# Altium schematic symbol library 方林.schlib: 91 symbols
Pins are listed as number, name and electrical type; pins without a type are passive.

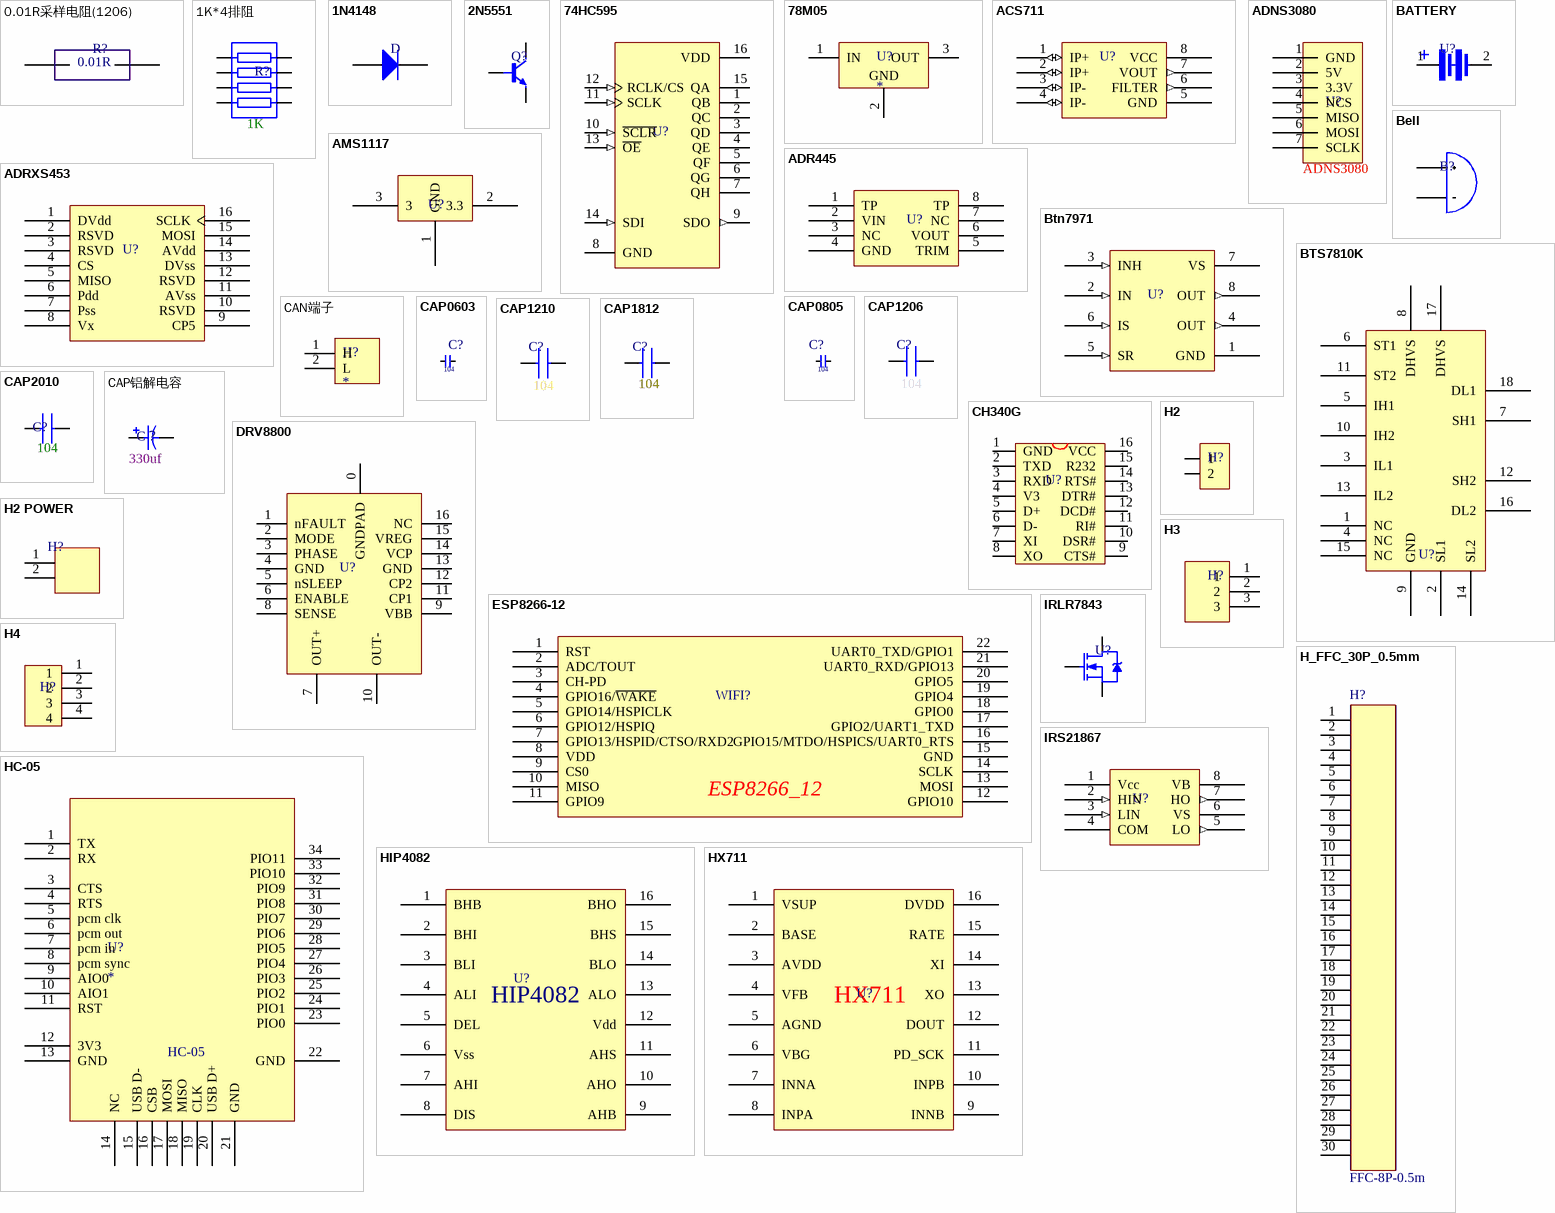
[diagram p0: symbols 0.01R采样电阻(1206) to IRS21867]

## 0.01R采样电阻(1206)
designator R?  (value not drawn)
采样电阻
footprint CAP1206
pins: 1, 2
text: 0.01R

## 1K*4排阻
designator R?  (value not drawn)
footprint 1K*4排阻
pins: 1, 2, 3, 4, 5, 6, 7, 8
text: 1K

## 1N4148
designator D  (value not drawn)
footprint 1N4148
pins: 1 A, 2 K

## 2N5551
designator Q?  (value not drawn)
NPN三极管
footprint 2N5551
pins: 1 b, 2 e, 3 c

## 74HC595
designator U?  (value not drawn)
锁存器
footprint 74HC595
pins: 1 QB (hiz), 2 QC (hiz), 3 QD (hiz), 4 QE (hiz), 5 QF (hiz), 6 QG (hiz), 7 QH (hiz), 8 GND (power), 9 SDO (out), 10 ~{SCLR} (in), 11 SCLK (in), 12 RCLK/CS (in), 13 ~{OE} (in), 14 SDI (in), 15 QA (hiz), 16 VDD (power)

## 78M05
designator U?
5V稳压
footprint 78M05
pins: 1 IN (power), 2 GND (power), 3 OUT (power)

## ACS711
designator U?  (value not drawn)
霍尔电流采样
footprint SOIC-NB-8
pins: 1 IP+ (io), 2 IP+ (io), 3 IP- (io), 4 IP- (io), 5 GND (power), 6 FILTER (out), 7 VOUT (out), 8 VCC (power)

## ADNS3080
designator U?  (value not drawn)
光流
footprint ADNS3080 (光流)
pins: 1 GND, 2 5V, 3 3.3V, 4 NCS, 5 MISO, 6 MOSI, 7 SCLK

## ADR445
designator U?  (value not drawn)
footprint ADR445
pins: 1 TP, 2 VIN, 3 NC, 4 GND, 5 TRIM, 6 VOUT, 7 NC, 8 TP

## ADRXS453
designator U?  (value not drawn)
footprint ADRXS453
pins: 1 DVdd, 2 RSVD, 3 RSVD, 4 CS, 5 MISO, 6 Pdd, 7 Pss, 8 Vx, 9 CP5, 10 RSVD, 11 AVss, 12 RSVD, 13 DVss, 14 AVdd, 15 MOSI, 16 SCLK

## AMS1117
designator U?  (value not drawn)
3.3V稳压电源
footprint AMS1117
pins: 1 GND, 2 3.3, 3

## BATTERY
designator U?  (value not drawn)
纽扣电池
footprint BATTERY
pins: 1 +, 2 -

## Bell
designator B?  (value not drawn)
蜂鸣器
footprint BELL11.9
footprint Bell9.2
pins: 1 A, 2 B

## Btn7971
designator U?  (value not drawn)
半桥驱动
footprint Btn7971
pins: 1 GND (power), 2 IN (in), 3 INH (in), 4 OUT (out), 5 SR (in), 6 IS (in), 7 VS (power), 8 OUT (out)

## BTS7810K
designator U?  (value not drawn)
全桥驱动
footprint BTS7810K
pins: 1 NC, 2 SL1, 3 IL1, 4 NC, 5 IH1, 6 ST1, 7 SH1, 8 DHVS, 9 GND, 10 IH2, 11 ST2, 12 SH2, 13 IL2, 14 SL2, 15 NC, 16 DL2, 17 DHVS, 18 DL1

## CAN端子
designator H?
footprint CAN端子
pins: 1 H, 2 L

## CAP0603
designator C?  (value not drawn)
footprint CAP0603
pins: 1, 2
text: 104

## CAP0805
designator C?, comment 104
footprint CAP
pins: 1, 2

## CAP1206
designator C?  (value not drawn)
footprint CAP1206
pins: 1, 2
text: 104

## CAP1210
designator C?  (value not drawn)
footprint CAP1210
pins: 1, 2
text: 104

## CAP1812
designator C?  (value not drawn)
footprint CAP1812
pins: 1, 2
text: 104

## CAP2010
designator C?  (value not drawn)
footprint CAP2010
pins: 1, 2
text: 104

## CAP铝解电容
designator C？  (value not drawn)
footprint CAP铝解电容
pins: 1, 2
text: 330uf

## CH340G
designator U?  (value not drawn)
usb转串口
footprint SOIC-16
pins: 1 GND, 2 TXD, 3 RXD, 4 V3, 5 D+, 6 D-, 7 XI, 8 XO, 9 CTS#, 10 DSR#, 11 RI#, 12 DCD#, 13 DTR#, 14 RTS#, 15 R232, 16 VCC

## DRV8800
designator U?  (value not drawn)
footprint DRV8800
pins: 0 GNDPAD, 1 nFAULT, 2 MODE, 3 PHASE, 4 GND, 5 nSLEEP, 6 ENABLE, 7 OUT+, 8 SENSE, 9 VBB, 10 OUT-, 11 CP1, 12 CP2, 13 GND, 14 VCP, 15 VREG, 16 NC

## ESP8266-12
designator WIFI?  (value not drawn)
footprint ESP8266-12
pins: 1 RST, 2 ADC/TOUT, 3 CH-PD, 4 GPIO16/~{WAKE}, 5 GPIO14/HSPICLK, 6 GPIO12/HSPIQ, 7 GPIO13/HSPID/CTSO/RXD2, 8 VDD, 9 CS0, 10 MISO, 11 GPIO9, 12 GPIO10, 13 MOSI, 14 SCLK, 15 GND, 16 GPIO15/MTDO/HSPICS/UART0_RTS, 17 GPIO2/UART1_TXD, 18 GPIO0, 19 GPIO4, 20 GPIO5, 21 UART0_RXD/GPIO13, 22 UART0_TXD/GPIO1
text: ESP8266_12

## H2
designator H?  (value not drawn)
排针
footprint H2 (排针)
footprint H2_WHITE (小白头)
pins: 1, 2

## H2 POWER
designator H?  (value not drawn)
footprint H2 POWER
pins: 1, 2

## H3
designator H?  (value not drawn)
排针
footprint H3 (排针)
footprint H3_WHITE (小白头)
pins: 1, 2, 3

## H4
designator H?  (value not drawn)
排针
footprint H4 (排针)
footprint H4_WHITE (小白头)
pins: 1, 2, 3, 4

## H_FFC_30P_0.5mm
designator H?, comment FFC-8P-0.5m
footprint H_FFC-30P-0.5 (间距0.5mm 30P)
pins: 1, 2, 3, 4, 5, 6, 7, 8, 9, 10, 11, 12, 13, 14, 15, 16, 17, 18, 19, 20, 21, 22, 23, 24, 25, 26, 27, 28, 29, 30

## HC-05
designator U?
蓝牙
footprint HC-05
pins: 1 TX, 2 RX, 3 CTS, 4 RTS, 5 pcm clk, 6 pcm out, 7 pcm in, 8 pcm sync, 9 AIO0, 10 AIO1, 11 RST, 12 3V3, 13 GND, 14 NC, 15 USB D-, 16 CSB, 17 MOSI, 18 MISO, 19 CLK, 20 USB D+, 21 GND, 22 GND, 23 PIO0, 24 PIO1, 25 PIO2, 26 PIO3, 27 PIO4, 28 PIO5, 29 PIO6, 30 PIO7, 31 PIO8, 32 PIO9, 33 PIO10, 34 PIO11

## HIP4082
designator U?  (value not drawn)
MOS驱动
footprint HIP4082
pins: 1 BHB, 2 BHI, 3 BLI, 4 ALI, 5 DEL, 6 Vss, 7 AHI, 8 DIS, 9 AHB, 10 AHO, 11 AHS, 12 Vdd, 13 ALO, 14 BLO, 15 BHS, 16 BHO

## HX711
designator U?  (value not drawn)
电子秤专用模拟/数字（A/D）转换器芯片
footprint SOP-16
pins: 1 VSUP, 2 BASE, 3 AVDD, 4 VFB, 5 AGND, 6 VBG, 7 INNA, 8 INPA, 9 INNB, 10 INPB, 11 PD_SCK, 12 DOUT, 13 XO, 14 XI, 15 RATE, 16 DVDD

## IRLR7843
designator U?  (value not drawn)
N-MOS
footprint IRLR7843
pins: 1 G, 3 S, 4 D

## IRS21867
designator U?  (value not drawn)
footprint IRS21867
pins: 1 Vcc (power), 2 HIN (in), 3 LIN (in), 4 COM (power), 5 LO (out), 6 VS (power), 7 HO (out), 8 VB (power)

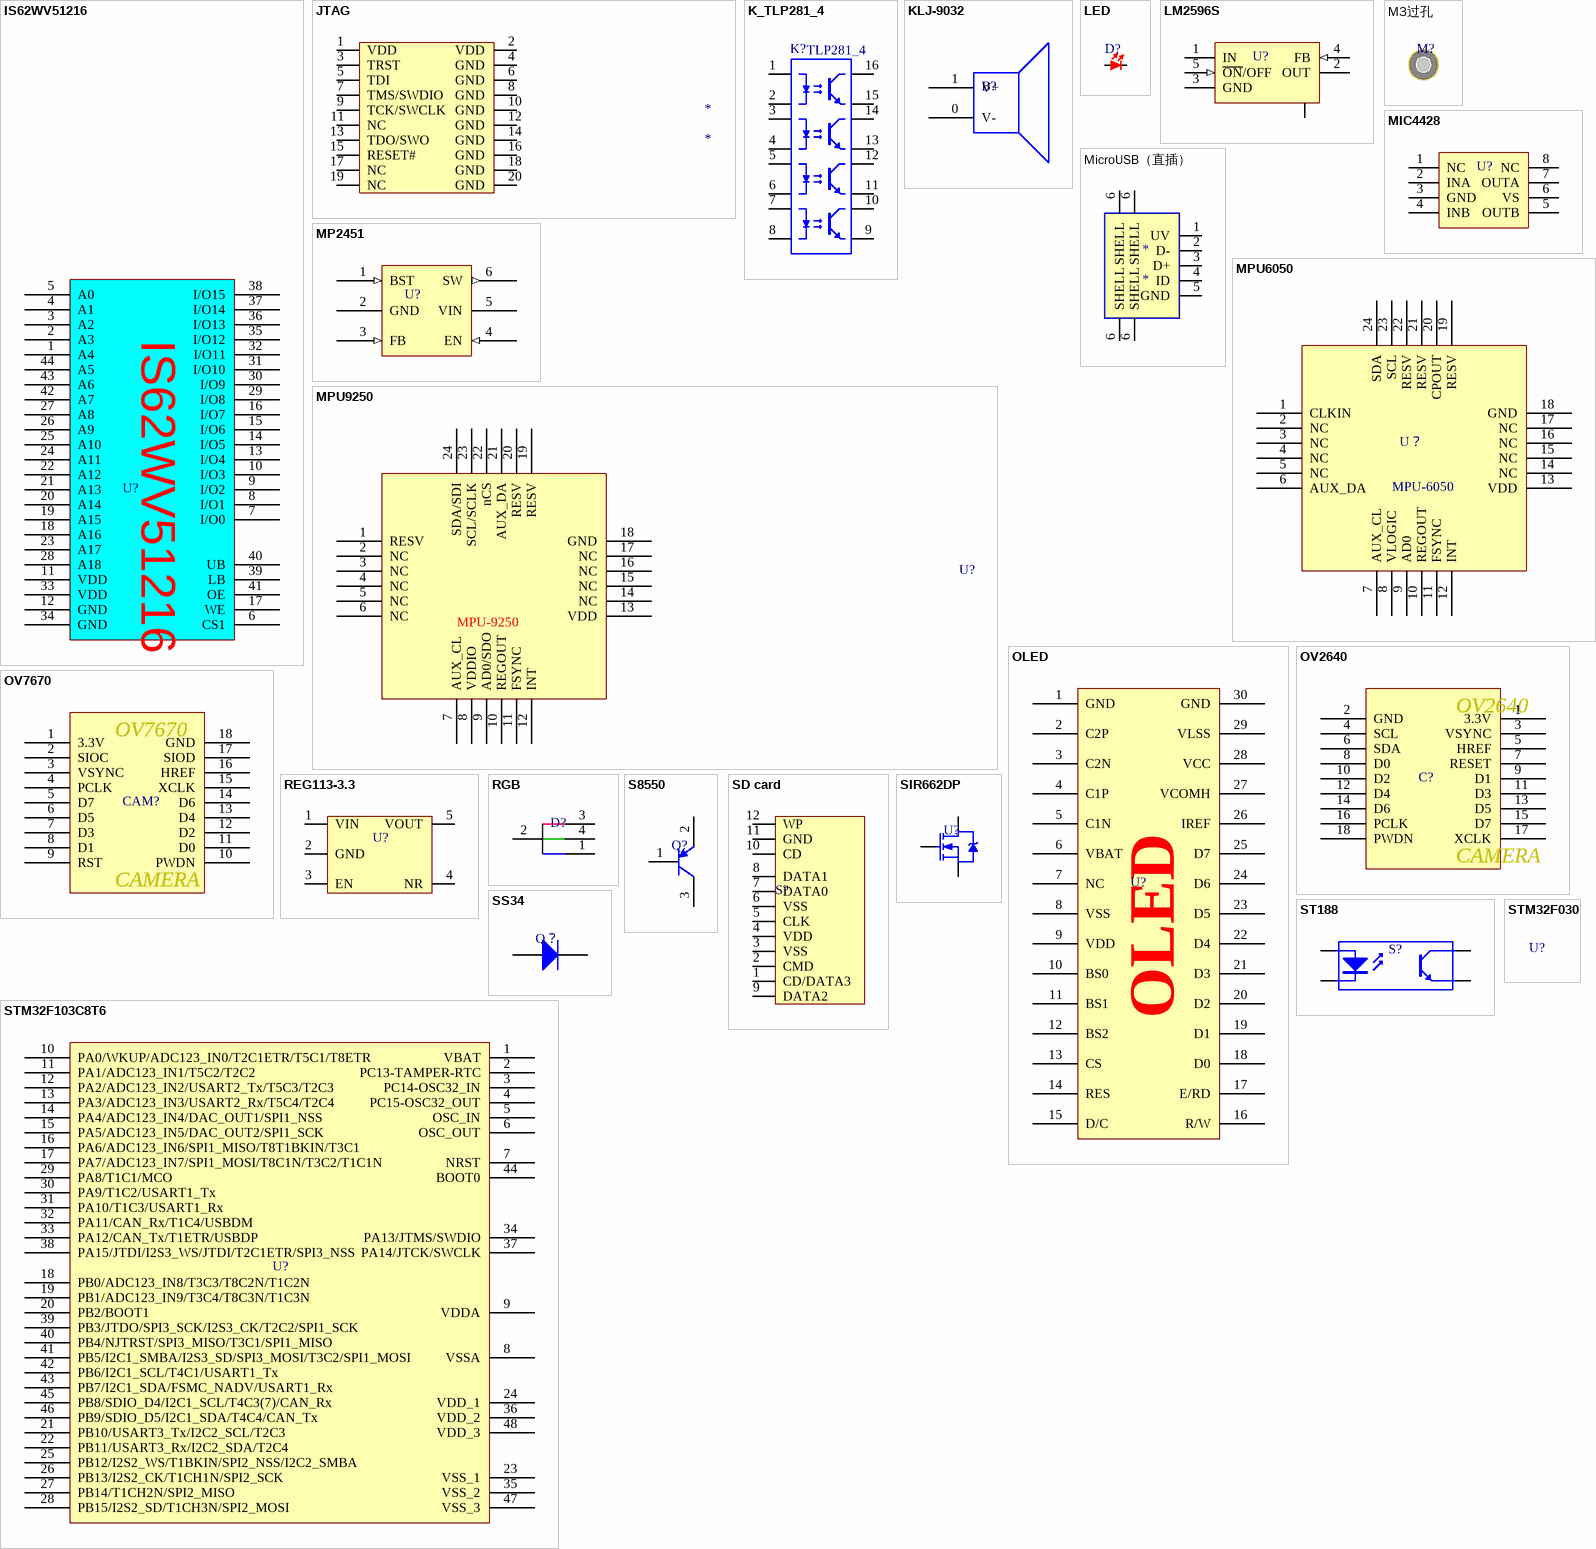
[diagram p1: symbols IS62WV51216 to STM32F103C8T6]

## IS62WV51216
designator U?  (value not drawn)
外部SRAM
footprint TSOP-44
pins: 1 A4, 2 A3, 3 A2, 4 A1, 5 A0, 6 CS1, 7 I/O0, 8 I/O1, 9 I/O2, 10 I/O3, 11 VDD, 12 GND, 13 I/O4, 14 I/O5, 15 I/O6, 16 I/O7, 17 WE, 18 A16, 19 A15, 20 A14, 21 A13, 22 A12, 23 A17, 24 A11, 25 A10, 26 A9, 27 A8, 28 A18, 29 I/O8, 30 I/O9, 31 I/O10, 32 I/O11, 33 VDD, 34 GND, 35 I/O12, 36 I/O13, 37 I/O14, 38 I/O15, 39 LB, 40 UB, 41 OE, 42 A7, 43 A6, 44 A5

## JTAG
designator *
footprint JTAG
pins: 1 VDD, 2 VDD, 3 TRST, 4 GND, 5 TDI, 6 GND, 7 TMS/SWDIO, 8 GND, 9 TCK/SWCLK, 10 GND, 11 NC, 12 GND, 13 TDO/SWO, 14 GND, 15 RESET#, 16 GND, 17 NC, 18 GND, 19 NC, 20 GND

## K_TLP281_4
designator K?, comment TLP281_4
4通道贴片光耦
footprint SOP-16
pins: 1 A "Anode", 2 K "Cathode", 3 A "Anode", 4 K "Cathode", 5 A "Anode", 6 K "Cathode", 7 A "Anode", 8 K "Cathode", 9 E "Emitter", 10 C "Collector", 11 E "Emitter", 12 C "Collector", 13 E "Emitter", 14 C "Collector", 15 E "Emitter", 16 C "Collector"

## KLJ-9032
designator B?  (value not drawn)
贴片蜂鸣器
footprint KLJ-9032
pins: 0 V- (power), 1 V+ (power)

## LED
designator D?  (value not drawn)
footprint LED
footprint LED_0603_R
footprint LED_0603_G
footprint LED_0603_B
pins: 1, 2

## LM2596S
designator U?  (value not drawn)
开关稳压芯片
footprint LM2596S
pins: 1 IN (power), 2 OUT (power), 3 GND (power), 4 FB (in), 5 ~{ON}/OFF (in), 6 (power)

## M3过孔
designator M?  (value not drawn)
footprint M3过孔

## MIC4428
designator U?  (value not drawn)
缓冲器
footprint SOIC-NB-8
pins: 1 NC, 2 INA, 3 GND, 4 INB, 5 OUTB, 6 VS, 7 OUTA, 8 NC

## MicroUSB（直插）
designator *
footprint MINI  USB
footprint MicroUSB（直插）
footprint Micro USB
pins: 1 UV, 2 D-, 3 D+, 4 ID, 5 GND, 6 SHELL, 6 SHELL, 6 SHELL, 6 SHELL

## MP2451
designator U?  (value not drawn)
footprint SOT23-6
pins: 1 BST (in), 2 GND (power), 3 FB (in), 4 EN (in), 5 VIN (power), 6 SW (out)

## MPU6050
designator U？  (value not drawn)
footprint MPU6050
pins: 1 CLKIN, 2 NC, 3 NC, 4 NC, 5 NC, 6 AUX_DA, 7 AUX_CL, 8 VLOGIC, 9 AD0, 10 REGOUT, 11 FSYNC, 12 INT, 13 VDD, 14 NC, 15 NC, 16 NC, 17 NC, 18 GND, 19 RESV, 20 CPOUT, 21 RESV, 22 RESV, 23 SCL, 24 SDA
text: MPU-6050

## MPU9250
designator U?  (value not drawn)
九轴陀螺仪
footprint MPU9250
pins: 1 RESV, 2 NC, 3 NC, 4 NC, 5 NC, 6 NC, 7 AUX_CL, 8 VDDIO, 9 AD0/SDO, 10 REGOUT, 11 FSYNC, 12 INT, 13 VDD, 14 NC, 15 NC, 16 NC, 17 NC, 18 GND, 19 RESV, 20 RESV, 21 AUX_DA, 22 nCS, 23 SCL/SCLK, 24 SDA/SDI
text: MPU-9250

## OLED
designator U?  (value not drawn)
footprint OLED
pins: 1 GND, 2 C2P, 3 C2N, 4 C1P, 5 C1N, 6 VBAT, 7 NC, 8 VSS, 9 VDD, 10 BS0, 11 BS1, 12 BS2, 13 CS, 14 RES, 15 D/C, 16 R/W, 17 E/RD, 18 D0, 19 D1, 20 D2, 21 D3, 22 D4, 23 D5, 24 D6, 25 D7, 26 IREF, 27 VCOMH, 28 VCC, 29 VLSS, 30 GND

## OV2640
designator C?  (value not drawn)
摄像头
footprint OV2640
pins: 1 3.3V, 2 GND, 3 VSYNC, 4 SCL, 5 HREF, 6 SDA, 7 RESET, 8 D0, 9 D1, 10 D2, 11 D3, 12 D4, 13 D5, 14 D6, 15 D7, 16 PCLK, 17 XCLK, 18 PWDN
text: CAMERA

## OV7670
designator CAM?  (value not drawn)
摄像头
footprint OV7670
pins: 1 3.3V, 2 SIOC, 3 VSYNC, 4 PCLK, 5 D7, 6 D5, 7 D3, 8 D1, 9 RST, 10 PWDN, 11 D0, 12 D2, 13 D4, 14 D6, 15 XCLK, 16 HREF, 17 SIOD, 18 GND
text: CAMERA

## REG113-3.3
designator U?  (value not drawn)
3.3V稳压电源
footprint REG113-3.3
pins: 1 VIN, 2 GND, 3 EN, 4 NR, 5 VOUT

## RGB
designator D?  (value not drawn)
三色LED
footprint RGB
pins: 1 OUT, 2 OUT, 3 OUT, 4 OUT

## S8550
designator Q?  (value not drawn)
pins: 1 B, 2 E, 3 C

## SD card
designator S?  (value not drawn)
footprint SDcard
pins: 1 CD/DATA3, 2 CMD, 3 VSS, 4 VDD, 5 CLK, 6 VSS, 7 DATA0, 8 DATA1, 9 DATA2, 10 CD, 11 GND, 12 WP

## SIR662DP
designator U?  (value not drawn)
N-MOS
footprint SIR662DP
pins: D, G, S

## SS34
designator Q？  (value not drawn)
肖特基二极管
footprint SS34 (肖特基二极管)
pins: 1 A, 2 K

## ST188
designator S?  (value not drawn)
红外对管
footprint ST188
pins: 1 A "Anode", 2 K "Cathode", 3 E "Emitter", 4 C "Collector"

## STM32F030
designator U?  (value not drawn)
footprint STM32F030

## STM32F103C8T6
designator U?  (value not drawn)
footprint LQFP_48P
pins: 1 VBAT, 2 PC13-TAMPER-RTC, 3 PC14-OSC32_IN, 4 PC15-OSC32_OUT, 5 OSC_IN, 6 OSC_OUT, 7 NRST, 8 VSSA, 9 VDDA, 10 PA0/WKUP/ADC123_IN0/T2C1ETR/T5C1/T8ETR, 11 PA1/ADC123_IN1/T5C2/T2C2, 12 PA2/ADC123_IN2/USART2_Tx/T5C3/T2C3, 13 PA3/ADC123_IN3/USART2_Rx/T5C4/T2C4, 14 PA4/ADC123_IN4/DAC_OUT1/SPI1_NSS, 15 PA5/ADC123_IN5/DAC_OUT2/SPI1_SCK, 16 PA6/ADC123_IN6/SPI1_MISO/T8T1BKIN/T3C1, 17 PA7/ADC123_IN7/SPI1_MOSI/T8C1N/T3C2/T1C1N, 18 PB0/ADC123_IN8/T3C3/T8C2N/T1C2N, 19 PB1/ADC123_IN9/T3C4/T8C3N/T1C3N, 20 PB2/BOOT1, 21 PB10/USART3_Tx/I2C2_SCL/T2C3, 22 PB11/USART3_Rx/I2C2_SDA/T2C4, 23 VSS_1, 24 VDD_1, 25 PB12/I2S2_WS/T1BKIN/SPI2_NSS/I2C2_SMBA, 26 PB13/I2S2_CK/T1CH1N/SPI2_SCK, 27 PB14/T1CH2N/SPI2_MISO, 28 PB15/I2S2_SD/T1CH3N/SPI2_MOSI, 29 PA8/T1C1/MCO, 30 PA9/T1C2/USART1_Tx, 31 PA10/T1C3/USART1_Rx, 32 PA11/CAN_Rx/T1C4/USBDM, 33 PA12/CAN_Tx/T1ETR/USBDP, 34 PA13/JTMS/SWDIO, 35 VSS_2, 36 VDD_2, 37 PA14/JTCK/SWCLK, 38 PA15/JTDI/I2S3_WS/JTDI/T2C1ETR/SPI3_NSS, 39 PB3/JTDO/SPI3_SCK/I2S3_CK/T2C2/SPI1_SCK, 40 PB4/NJTRST/SPI3_MISO/T3C1/SPI1_MISO, 41 PB5/I2C1_SMBA/I2S3_SD/SPI3_MOSI/T3C2/SPI1_MOSI, 42 PB6/I2C1_SCL/T4C1/USART1_Tx, 43 PB7/I2C1_SDA/FSMC_NADV/USART1_Rx, 44 BOOT0, 45 PB8/SDIO_D4/I2C1_SCL/T4C3(7)/CAN_Rx, 46 PB9/SDIO_D5/I2C1_SDA/T4C4/CAN_Tx, 47 VSS_3, 48 VDD_3

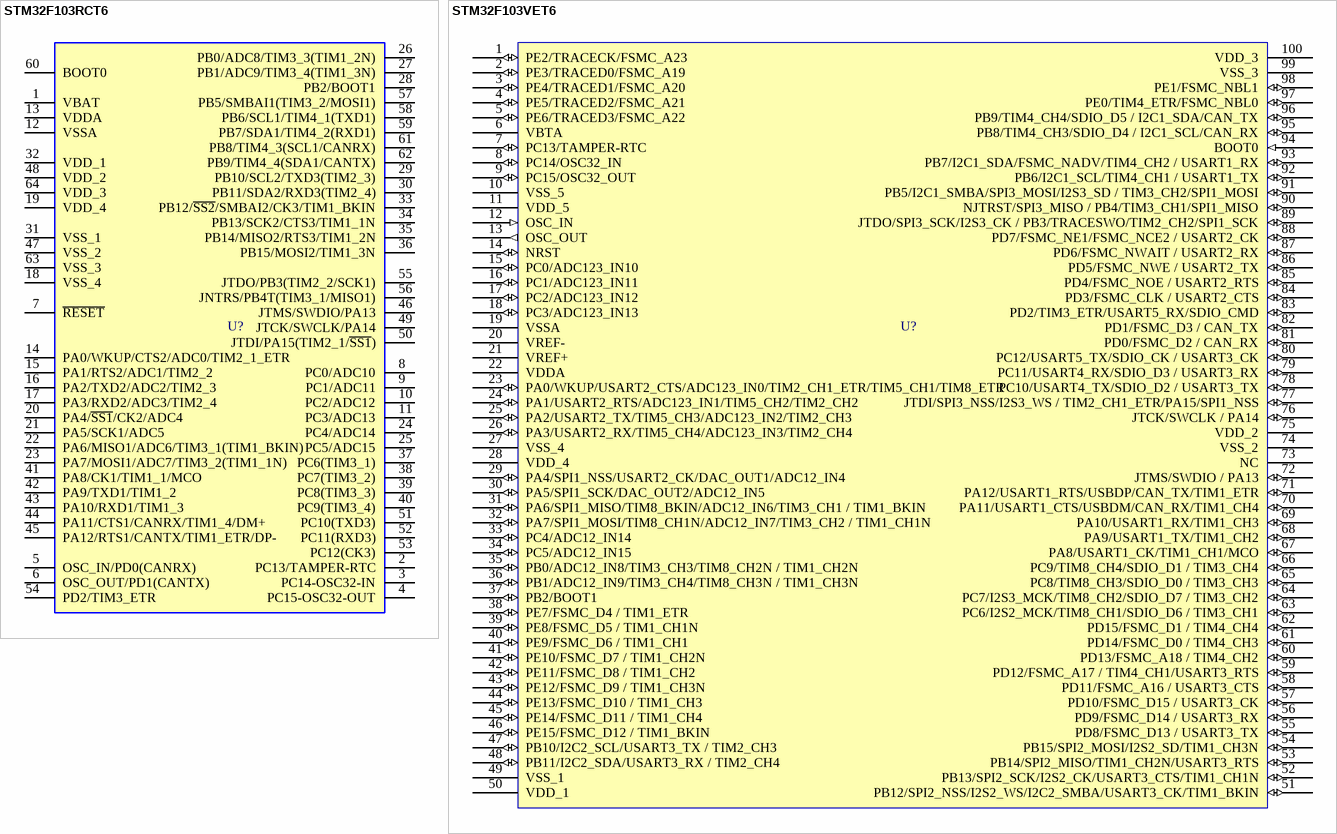
[diagram p2: symbols STM32F103RCT6 to STM32F103VET6]

## STM32F103RCT6
designator U?  (value not drawn)
footprint LQFP_64P
pins: 1 VBAT, 2 PC13/TAMPER-RTC, 3 PC14-OSC32-IN, 4 PC15-OSC32-OUT, 5 OSC_IN/PD0(CANRX), 6 OSC_OUT/PD1(CANTX), 7 ~{RESET}, 8 PC0/ADC10, 9 PC1/ADC11, 10 PC2/ADC12, 11 PC3/ADC13, 12 VSSA, 13 VDDA, 14 PA0/WKUP/CTS2/ADC0/TIM2_1_ETR, 15 PA1/RTS2/ADC1/TIM2_2, 16 PA2/TXD2/ADC2/TIM2_3, 17 PA3/RXD2/ADC3/TIM2_4, 18 VSS_4, 19 VDD_4, 20 PA4/~{SS1}/CK2/ADC4, 21 PA5/SCK1/ADC5, 22 PA6/MISO1/ADC6/TIM3_1(TIM1_BKIN), 23 PA7/MOSI1/ADC7/TIM3_2(TIM1_1N), 24 PC4/ADC14, 25 PC5/ADC15, 26 PB0/ADC8/TIM3_3(TIM1_2N), 27 PB1/ADC9/TIM3_4(TIM1_3N), 28 PB2/BOOT1, 29 PB10/SCL2/TXD3(TIM2_3), 30 PB11/SDA2/RXD3(TIM2_4), 31 VSS_1, 32 VDD_1, 33 PB12/~{SS2}/SMBAI2/CK3/TIM1_BKIN, 34 PB13/SCK2/CTS3/TIM1_1N, 35 PB14/MISO2/RTS3/TIM1_2N, 36 PB15/MOSI2/TIM1_3N, 37 PC6(TIM3_1), 38 PC7(TIM3_2), 39 PC8(TIM3_3), 40 PC9(TIM3_4), 41 PA8/CK1/TIM1_1/MCO, 42 PA9/TXD1/TIM1_2, 43 PA10/RXD1/TIM1_3, 44 PA11/CTS1/CANRX/TIM1_4/DM+, 45 PA12/RTS1/CANTX/TIM1_ETR/DP-, 46 JTMS/SWDIO/PA13, 47 VSS_2, 48 VDD_2, 49 JTCK/SWCLK/PA14, 50 JTDI/PA15(TIM2_1/~{SS1}), 51 PC10(TXD3), 52 PC11(RXD3), 53 PC12(CK3), 54 PD2/TIM3_ETR, 55 JTDO/PB3(TIM2_2/SCK1), 56 JNTRS/PB4T(TIM3_1/MISO1), 57 PB5/SMBAI1(TIM3_2/MOSI1), 58 PB6/SCL1/TIM4_1(TXD1), 59 PB7/SDA1/TIM4_2(RXD1), 60 BOOT0, 61 PB8/TIM4_3(SCL1/CANRX), 62 PB9/TIM4_4(SDA1/CANTX), 63 VSS_3, 64 VDD_3

## STM32F103VET6
designator U?  (value not drawn)
footprint LQFP_100P
pins: 1 PE2/TRACECK/FSMC_A23 (io), 2 PE3/TRACED0/FSMC_A19 (io), 3 PE4/TRACED1/FSMC_A20 (io), 4 PE5/TRACED2/FSMC_A21 (io), 5 PE6/TRACED3/FSMC_A22 (io), 6 VBTA (power), 7 PC13/TAMPER-RTC (io), 8 PC14/OSC32_IN (io), 9 PC15/OSC32_OUT (io), 10 VSS_5 (power), 11 VDD_5 (power), 12 OSC_IN (in), 13 OSC_OUT (out), 14 NRST (io), 15 PC0/ADC123_IN10 (io), 16 PC1/ADC123_IN11 (io), 17 PC2/ADC123_IN12 (io), 18 PC3/ADC123_IN13 (io), 19 VSSA (power), 20 VREF- (power), 21 VREF+ (power), 22 VDDA (power), 23 PA0/WKUP/USART2_CTS/ADC123_IN0/TIM2_CH1_ETR/TIM5_CH1/TIM8_ETR (io), 24 PA1/USART2_RTS/ADC123_IN1/TIM5_CH2/TIM2_CH2 (io), 25 PA2/USART2_TX/TIM5_CH3/ADC123_IN2/TIM2_CH3 (io), 26 PA3/USART2_RX/TIM5_CH4/ADC123_IN3/TIM2_CH4 (io), 27 VSS_4 (power), 28 VDD_4 (power), 29 PA4/SPI1_NSS/USART2_CK/DAC_OUT1/ADC12_IN4 (io), 30 PA5/SPI1_SCK/DAC_OUT2/ADC12_IN5 (io), 31 PA6/SPI1_MISO/TIM8_BKIN/ADC12_IN6/TIM3_CH1 / TIM1_BKIN (io), 32 PA7/SPI1_MOSI/TIM8_CH1N/ADC12_IN7/TIM3_CH2 / TIM1_CH1N (io), 33 PC4/ADC12_IN14 (io), 34 PC5/ADC12_IN15 (io), 35 PB0/ADC12_IN8/TIM3_CH3/TIM8_CH2N / TIM1_CH2N (io), 36 PB1/ADC12_IN9/TIM3_CH4/TIM8_CH3N / TIM1_CH3N (io), 37 PB2/BOOT1 (io), 38 PE7/FSMC_D4 / TIM1_ETR (io), 39 PE8/FSMC_D5 / TIM1_CH1N (io), 40 PE9/FSMC_D6 / TIM1_CH1 (io), 41 PE10/FSMC_D7 / TIM1_CH2N (io), 42 PE11/FSMC_D8 / TIM1_CH2 (io), 43 PE12/FSMC_D9 / TIM1_CH3N (io), 44 PE13/FSMC_D10 / TIM1_CH3 (io), 45 PE14/FSMC_D11 / TIM1_CH4 (io), 46 PE15/FSMC_D12 / TIM1_BKIN (io), 47 PB10/I2C2_SCL/USART3_TX / TIM2_CH3 (io), 48 PB11/I2C2_SDA/USART3_RX / TIM2_CH4 (io), 49 VSS_1 (power), 50 VDD_1 (power), 51 PB12/SPI2_NSS/I2S2_WS/I2C2_SMBA/USART3_CK/TIM1_BKIN (io), 52 PB13/SPI2_SCK/I2S2_CK/USART3_CTS/TIM1_CH1N (io), 53 PB14/SPI2_MISO/TIM1_CH2N/USART3_RTS (io), 54 PB15/SPI2_MOSI/I2S2_SD/TIM1_CH3N (io), 55 PD8/FSMC_D13 / USART3_TX (io), 56 PD9/FSMC_D14 / USART3_RX (io), 57 PD10/FSMC_D15 / USART3_CK (io), 58 PD11/FSMC_A16 / USART3_CTS (io), 59 PD12/FSMC_A17 / TIM4_CH1/USART3_RTS (io), 60 PD13/FSMC_A18 / TIM4_CH2 (io), 61 PD14/FSMC_D0 / TIM4_CH3 (io), 62 PD15/FSMC_D1 / TIM4_CH4 (io), 63 PC6/I2S2_MCK/TIM8_CH1/SDIO_D6 / TIM3_CH1 (io), 64 PC7/I2S3_MCK/TIM8_CH2/SDIO_D7 / TIM3_CH2 (io), 65 PC8/TIM8_CH3/SDIO_D0 / TIM3_CH3 (io), 66 PC9/TIM8_CH4/SDIO_D1 / TIM3_CH4 (io), 67 PA8/USART1_CK/TIM1_CH1/MCO (io), 68 PA9/USART1_TX/TIM1_CH2 (io), 69 PA10/USART1_RX/TIM1_CH3 (io), 70 PA11/USART1_CTS/USBDM/CAN_RX/TIM1_CH4 (io), 71 PA12/USART1_RTS/USBDP/CAN_TX/TIM1_ETR (io), 72 JTMS/SWDIO / PA13 (io), 73 NC, 74 VSS_2 (power), 75 VDD_2 (power), 76 JTCK/SWCLK / PA14 (io), 77 JTDI/SPI3_NSS/I2S3_WS / TIM2_CH1_ETR/PA15/SPI1_NSS (io), 78 PC10/USART4_TX/SDIO_D2 / USART3_TX (io), 79 PC11/USART4_RX/SDIO_D3 / USART3_RX (io), 80 PC12/USART5_TX/SDIO_CK / USART3_CK (io), 81 PD0/FSMC_D2 / CAN_RX (io), 82 PD1/FSMC_D3 / CAN_TX (io), 83 PD2/TIM3_ETR/USART5_RX/SDIO_CMD (io), 84 PD3/FSMC_CLK / USART2_CTS (io), 85 PD4/FSMC_NOE / USART2_RTS (io), 86 PD5/FSMC_NWE / USART2_TX (io), 87 PD6/FSMC_NWAIT / USART2_RX (io), 88 PD7/FSMC_NE1/FSMC_NCE2 / USART2_CK (io), 89 JTDO/SPI3_SCK/I2S3_CK / PB3/TRACESWO/TIM2_CH2/SPI1_SCK (io), 90 NJTRST/SPI3_MISO / PB4/TIM3_CH1/SPI1_MISO (io), 91 PB5/I2C1_SMBA/SPI3_MOSI/I2S3_SD / TIM3_CH2/SPI1_MOSI (io), 92 PB6/I2C1_SCL/TIM4_CH1 / USART1_TX (io), 93 PB7/I2C1_SDA/FSMC_NADV/TIM4_CH2 / USART1_RX (io), 94 BOOT0 (in), 95 PB8/TIM4_CH3/SDIO_D4 / I2C1_SCL/CAN_RX (io), 96 PB9/TIM4_CH4/SDIO_D5 / I2C1_SDA/CAN_TX (io), 97 PE0/TIM4_ETR/FSMC_NBL0 (io), 98 PE1/FSMC_NBL1 (io), 99 VSS_3 (power), 100 VDD_3 (power)

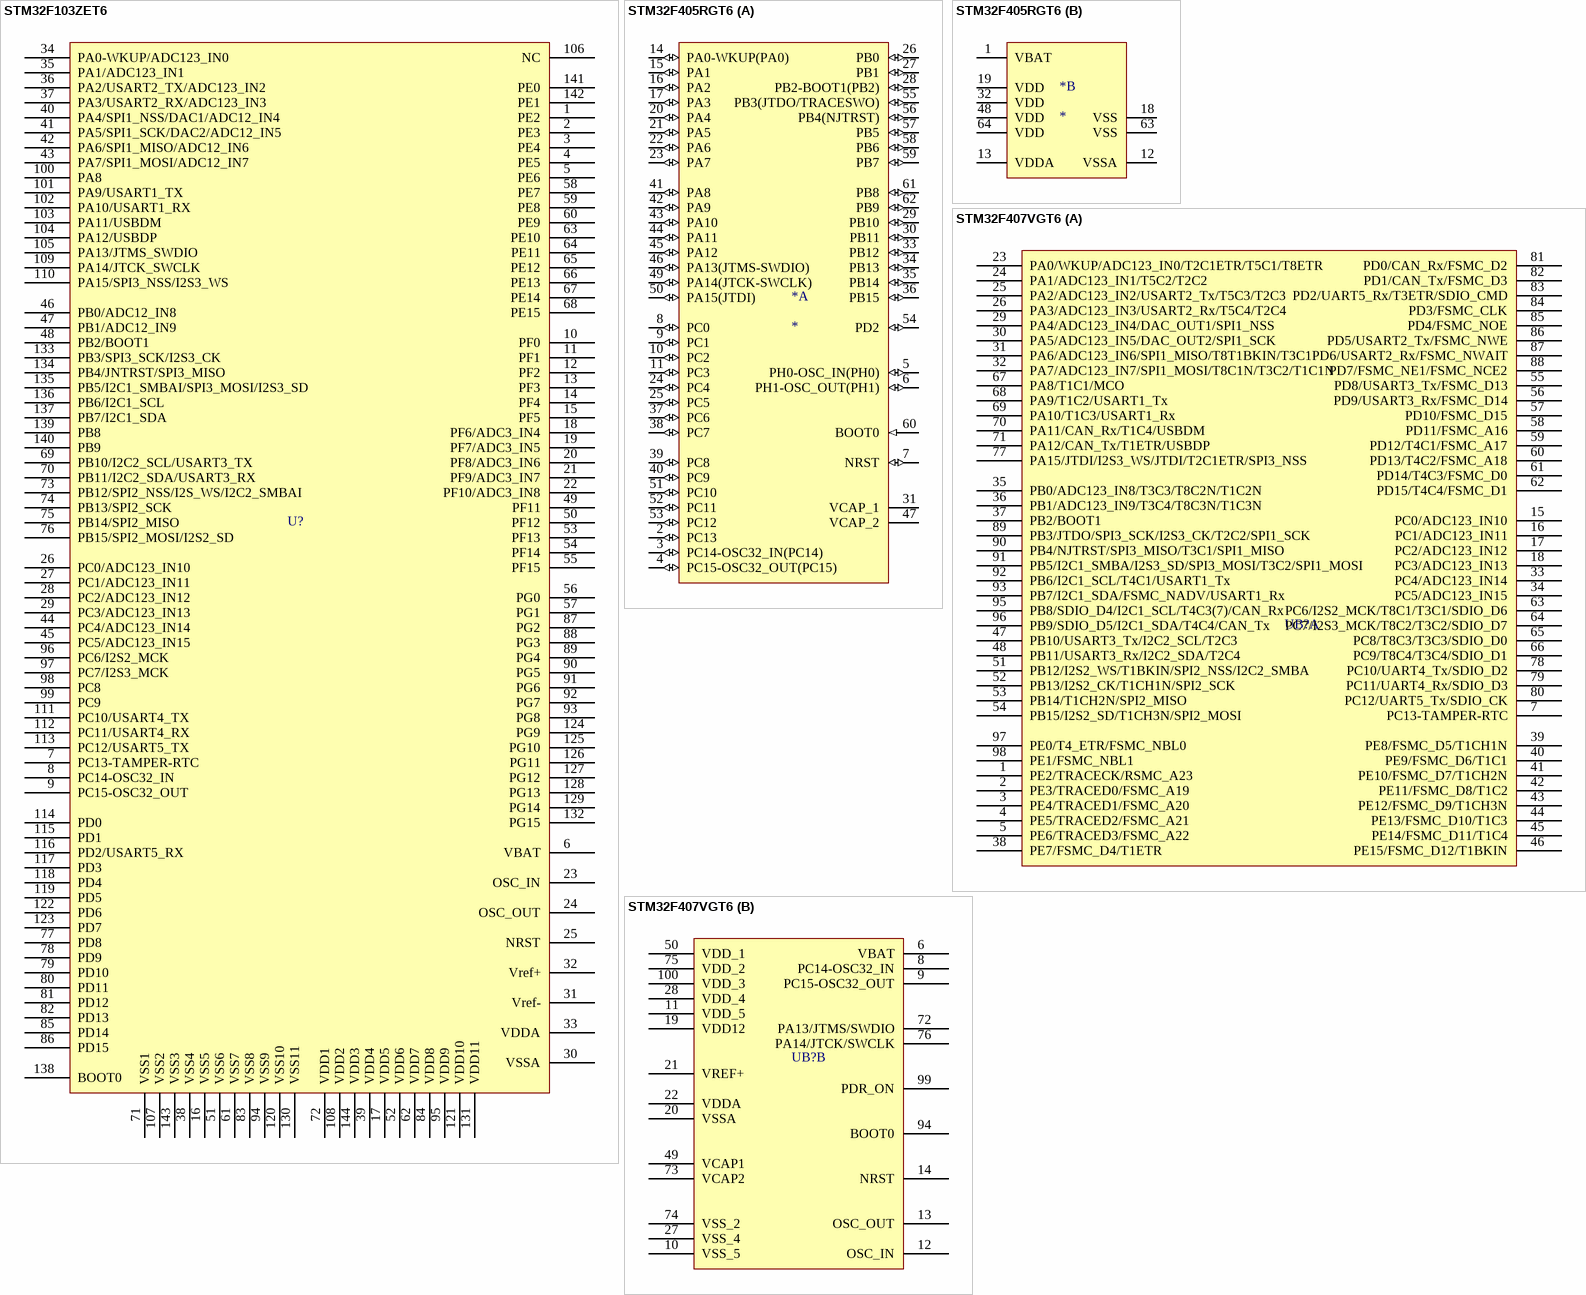
[diagram p3: symbols STM32F103ZET6 to STM32F407VGT6]

## STM32F103ZET6
designator U?  (value not drawn)
footprint LQFP_144P
pins: 1 PE2, 2 PE3, 3 PE4, 4 PE5, 5 PE6, 6 VBAT, 7 PC13-TAMPER-RTC, 8 PC14-OSC32_IN, 9 PC15-OSC32_OUT, 10 PF0, 11 PF1, 12 PF2, 13 PF3, 14 PF4, 15 PF5, 16 VSS5, 17 VDD5, 18 PF6/ADC3_IN4, 19 PF7/ADC3_IN5, 20 PF8/ADC3_IN6, 21 PF9/ADC3_IN7, 22 PF10/ADC3_IN8, 23 OSC_IN, 24 OSC_OUT, 25 NRST, 26 PC0/ADC123_IN10, 27 PC1/ADC123_IN11, 28 PC2/ADC123_IN12, 29 PC3/ADC123_IN13, 30 VSSA, 31 Vref-, 32 Vref+, 33 VDDA, 34 PA0-WKUP/ADC123_IN0, 35 PA1/ADC123_IN1, 36 PA2/USART2_TX/ADC123_IN2, 37 PA3/USART2_RX/ADC123_IN3, 38 VSS4, 39 VDD4, 40 PA4/SPI1_NSS/DAC1/ADC12_IN4, 41 PA5/SPI1_SCK/DAC2/ADC12_IN5, 42 PA6/SPI1_MISO/ADC12_IN6, 43 PA7/SPI1_MOSI/ADC12_IN7, 44 PC4/ADC123_IN14, 45 PC5/ADC123_IN15, 46 PB0/ADC12_IN8, 47 PB1/ADC12_IN9, 48 PB2/BOOT1, 49 PF11, 50 PF12, 51 VSS6, 52 VDD6, 53 PF13, 54 PF14, 55 PF15, 56 PG0, 57 PG1, 58 PE7, 59 PE8, 60 PE9, 61 VSS7, 62 VDD7, 63 PE10, 64 PE11, 65 PE12, 66 PE13, 67 PE14, 68 PE15, 69 PB10/I2C2_SCL/USART3_TX, 70 PB11/I2C2_SDA/USART3_RX, 71 VSS1, 72 VDD1, 73 PB12/SPI2_NSS/I2S_WS/I2C2_SMBAI, 74 PB13/SPI2_SCK, 75 PB14/SPI2_MISO, 76 PB15/SPI2_MOSI/I2S2_SD, 77 PD8, 78 PD9, 79 PD10, 80 PD11, 81 PD12, 82 PD13, 83 VSS8, 84 VDD8, 85 PD14, 86 PD15, 87 PG2, 88 PG3, 89 PG4, 90 PG5, 91 PG6, 92 PG7, 93 PG8, 94 VSS9, 95 VDD9, 96 PC6/I2S2_MCK, 97 PC7/I2S3_MCK, 98 PC8, 99 PC9, 100 PA8, 101 PA9/USART1_TX, 102 PA10/USART1_RX, 103 PA11/USBDM, 104 PA12/USBDP, 105 PA13/JTMS_SWDIO, 106 NC, 107 VSS2, 108 VDD2, 109 PA14/JTCK_SWCLK, 110 PA15/SPI3_NSS/I2S3_WS, 111 PC10/USART4_TX, 112 PC11/USART4_RX, 113 PC12/USART5_TX, 114 PD0, 115 PD1, 116 PD2/USART5_RX, 117 PD3, 118 PD4, 119 PD5, 120 VSS10, 121 VDD10, 122 PD6, 123 PD7, 124 PG9, 125 PG10, 126 PG11, 127 PG12, 128 PG13, 129 PG14, 130 VSS11, 131 VDD11, 132 PG15, 133 PB3/SPI3_SCK/I2S3_CK, 134 PB4/JNTRST/SPI3_MISO, 135 PB5/I2C1_SMBAI/SPI3_MOSI/I2S3_SD, 136 PB6/I2C1_SCL, 137 PB7/I2C1_SDA, 138 BOOT0, 139 PB8, 140 PB9, 141 PE0, 142 PE1, 143 VSS3, 144 VDD3

## STM32F405RGT6
designator *
footprint LQFP_64P
part A pins: 2 PC13 (io) "PC13/EVENTOUT/RTC_OUT,RTC_TAMP1,RTC_TS", 3 PC14-OSC32_IN(PC14) (io) "PC14-OSC32_IN(PC14)/EVENTOUT/OSC32_IN", 4 PC15-OSC32_OUT(PC15) (io) "PC15-OSC32_OUT(PC15)/EVENTOUT/OSC32_OUT", 5 PH0-OSC_IN(PH0) (io) "PH0-OSC_IN(PH0)/EVENTOUT/OSC_IN", 6 PH1-OSC_OUT(PH1) (io) "PH1-OSC_OUT(PH1)/EVENTOUT/OSC_OUT", 7 NRST (io), 8 PC0 (io) "PC0/OTG_HS_ULPI_STP/EVENTOUT/ADC123_IN10", 9 PC1 (io) "PC1/ETH_MDC/EVENTOUT/ADC123_IN11", 10 PC2 (io) "PC2/SPI2_MISO/OTG_HS_ULPI_DIR/ETH_MII_TXD2/I2S2ext_SD/EVENTOUT/ADC123_IN12", 11 PC3 (io) "PC3/SPI2_MOSI/I2S2_SD/OTG_HS_ULPI_NXT/ETH_MII_TX_CLK/EVENTOUT/ADC123_IN13", 14 PA0-WKUP(PA0) (io) "PA0-WKUP(PA0)/USART2_CTS/UART4_TX/ETH_MII_CRS/TIM2_CH1_ETR/TIM5_CH1/TIM8_ETR/EVENTOUT/ADC123_IN0/WKUP", 15 PA1 (io) "PA1/USART2_RTS/UART4_RX/ETH_RMII_REF_CLK/ETH_MII_RX_CLK/TIM5_CH2/TIM2_CH2/EVENTOUT/ADC123_IN1", 16 PA2 (io) "PA2/USART2_TX/TIM5_CH3/TIM9_CH1/TIM2_CH3/ETH_MDIO/EVENTOUT/ADC123_IN2", 17 PA3 (io) "PA3/USART2_RX/TIM5_CH4/TIM9_CH2/TIM2_CH4/OTG_HS_ULPI_D0/ETH_MII_COL/EVENTOUT/ADC123_IN3", 20 PA4 (io) "PA4/SPI1_NSS/SPI3_NSS/USART2_CK/DCMI_HSYNC/OTG_HS_SOF/I2S3_WS/EVENTOUT/ADC12_IN4/DAC_OUT1", 21 PA5 (io) "PA5/SPI1_SCK/OTG_HS_ULPI_CK/TIM2_CH1_ETR/TIM8_CH1N/EVENTOUT/ADC12_IN5/DAC_OUT2", 22 PA6 (io) "PA6/SPI1_MISO/TIM8_BKIN/TIM13_CH1/DCMI_PIXCLK/TIM3_CH1/TIM1_BKIN/EVENTOUT/ADC12_IN6", 23 PA7 (io) "PA7/SPI1_MOSI/TIM8_CH1N/TIM14_CH1/TIM3_CH2/ETH_MII_RX_DV/TIM1_CH1N/ETH_RMII_CRS_DV/EVENTOUT/ADC12_IN7", 24 PC4 (io) "PC4/ETH_RMII_RX_D0/ETH_MII_RX_D0/EVENTOUT/ADC12_IN14", 25 PC5 (io) "PC5/ETH_RMII_RX_D1/ETH_MII_RX_D1/EVENTOUT/ADC12_IN15", 26 PB0 (io) "PB0/TIM3_CH3/TIM8_CH2N/OTG_HS_ULPI_D1/ETH_MII_RXD2/TIM1_CH2N/EVENTOUT/ADC12_IN8", 27 PB1 (io) "PB1/TIM3_CH4/TIM8_CH3N/OTG_HS_ULPI_D2/ETH_MII_RXD3/TIM1_CH3N/EVENTOUT/ADC12_IN9", 28 PB2-BOOT1(PB2) (io) "PB2-BOOT1(PB2)/EVENTOUT", 29 PB10 (io) "PB10/SPI2_SCK/I2S2_CK/I2C2_SCL/USART3_TX/OTG_HS_ULPI_D3/ETH_MII_RX_ER/TIM2_CH3/EVENTOUT", 30 PB11 (io) "PB11/I2C2_SDA/USART3_RX/OTG_HS_ULPI_D4/ETH_RMII_TX_EN/ETH_MII_TX_EN/TIM2_CH4/EVENTOUT", 31 VCAP_1 (power), 33 PB12 (io) "PB12/SPI2_NSS/I2S2_WS/I2C2_SMBA/USART3_CK/TIM1_BKIN/CAN2_RX/OTG_HS_ULPI_D5/ETH_RMII_TXD0/ETH_MII_TXD0/OTG_HS_ID/EVENTOUT", 34 PB13 (io) "PB13/SPI2_SCK/I2S2_CK/USART3_CTS/TIM1_CH1N/CAN2_TX/OTG_HS_ULPI_D6/ETH_RMII_TXD1/ETH_MII_TXD1/EVENTOUT/OTG_HS_VBUS", 35 PB14 (io) "PB14/SPI2_MISO/TIM1_CH2N/TIM12_CH1/OTG_HS_DM/USART3_RTS/TIM8_CH2N/I2S2ext_SD/EVENTOUT", 36 PB15 (io) "PB15/SPI2_MOSI/I2S2_SD/TIM1_CH3N/TIM8_CH3N/TIM12_CH2/OTG_HS_DP/EVENTOUT/RTC_REFIN", 37 PC6 (io) "PC6/I2S2_MCK/TIM8_CH1/SDIO_D6/USART6_TX/DCMI_D0/TIM3_CH1/EVENTOUT", 38 PC7 (io) "PC7/I2S3_MCK/TIM8_CH2/SDIO_D7/USART6_RX/DCMI_D1/TIM3_CH2/EVENTOUT", 39 PC8 (io) "PC8/TIM8_CH3/SDIO_D0/TIM3_CH3/USART6_CK/DCMI_D2/EVENTOUT", 40 PC9 (io) "PC9/I2S_CKIN/MCO2/TIM8_CH4/SDIO_D1/I2C3_SDA/DCMI_D3/TIM3_CH4/EVENTOUT", 41 PA8 (io) "PA8/MCO1/USART1_CK/TIM1_CH1/I2C3_SCL/OTG_FS_SOF/EVENTOUT", 42 PA9 (io) "PA9/USART1_TX/TIM1_CH2/I2C3_SMBA/DCMI_D0/EVENTOUT/OTG_FS_VBUS", 43 PA10 (io) "PA10/USART1_RX/TIM1_CH3/OTG_FS_ID/DCMI_D1/EVENTOUT", 44 PA11 (io) "PA11/USART1_CTS/CAN1_RX/TIM1_CH4/OTG_FS_DM/EVENTOUT", 45 PA12 (io) "PA12/USART1_RTS/CAN1_TX/TIM1_ETR/OTG_FS_DP/EVENTOUT", 46 PA13(JTMS-SWDIO) (io) "PA13(JTMS-SWDIO)/JTMS-SWDIO/EVENTOUT", 47 VCAP_2 (power), 49 PA14(JTCK-SWCLK) (io) "PA14(JTCK-SWCLK)/JTCK-SWCLK/EVENTOUT", 50 PA15(JTDI) (io) "PA15(JTDI)/JTDI/SPI3_NSS/I2S3_WS/TIM2_CH1_ETR/SPI1_NSS/EVENTOUT", 51 PC10 (io) "PC10/SPI3_SCK/I2S3_CK/UART4_TX/SDIO_D2/DCMI_D8/USART3_TX/EVENTOUT", 52 PC11 (io) "PC11/UART4_RX/SPI3_MISO/SDIO_D3/DCMI_D4/USART3_RX/I2S3ext_SD/EVENTOUT", 53 PC12 (io) "PC12/UART5_TX/SDIO_CK/DCMI_D9/SPI3_MOSI/I2S3_SD/USART3_CK/EVENTOUT", 54 PD2 (io) "PD2/TIM3_ETR/UART5_RX/SDIO_CMD/DCMI_D11/EVENTOUT", 55 PB3(JTDO/TRACESWO) (io) "PB3(JTDO/TRACESWO)/JTDO/TRACESWO/SPI3_SCK/I2S3_CK/TIM2_CH2/SPI1_SCK/EVENTOUT", 56 PB4(NJTRST) (io) "PB4(NJTRST)/NJTRST/SPI3_MISO/TIM3_CH1/SPI1_MISO/I2S3ext_SD/EVENTOUT", 57 PB5 (io) "PB5/I2C1_SMBA/CAN2_RX/OTG_HS_ULPI_D7/ETH_PPS_OUT/TIM3_CH2/SPI1_MOSI/SPI3_MOSI/DCMI_D10/I2S3_SD/EVENTOUT", 58 PB6 (io) "PB6/I2C1_SCL/TIM4_CH1/CAN2_TX/DCMI_D5/USART1_TX/EVENTOUT", 59 PB7 (io) "PB7/I2C1_SDA/FSMC_NL/DCMI_VSYNC/USART1_RX/TIM4_CH2/EVENTOUT", 60 BOOT0 (in) "BOOT0/VPP", 61 PB8 (io) "PB8/TIM4_CH3/SDIO_D4/TIM10_CH1/DCMI_D6/ETH_MII_TXD3/I2C1_SCL/CAN1_RX/EVENTOUT", 62 PB9 (io) "PB9/SPI2_NSS/I2S2_WS/TIM4_CH4/TIM11_CH1/SDIO_D5/DCMI_D7/I2C1_SDA/CAN1_TX/EVENTOUT"
part B pins: 1 VBAT (power), 12 VSSA (power), 13 VDDA (power), 18 VSS (power), 19 VDD (power), 32 VDD (power), 48 VDD (power), 63 VSS (power), 64 VDD (power)

## STM32F407VGT6
designator UB?  (value not drawn)
footprint LQFP_100P
part A pins: 1 PE2/TRACECK/RSMC_A23, 2 PE3/TRACED0/FSMC_A19, 3 PE4/TRACED1/FSMC_A20, 4 PE5/TRACED2/FSMC_A21, 5 PE6/TRACED3/FSMC_A22, 7 PC13-TAMPER-RTC, 15 PC0/ADC123_IN10, 16 PC1/ADC123_IN11, 17 PC2/ADC123_IN12, 18 PC3/ADC123_IN13, 23 PA0/WKUP/ADC123_IN0/T2C1ETR/T5C1/T8ETR, 24 PA1/ADC123_IN1/T5C2/T2C2, 25 PA2/ADC123_IN2/USART2_Tx/T5C3/T2C3, 26 PA3/ADC123_IN3/USART2_Rx/T5C4/T2C4, 29 PA4/ADC123_IN4/DAC_OUT1/SPI1_NSS, 30 PA5/ADC123_IN5/DAC_OUT2/SPI1_SCK, 31 PA6/ADC123_IN6/SPI1_MISO/T8T1BKIN/T3C1, 32 PA7/ADC123_IN7/SPI1_MOSI/T8C1N/T3C2/T1C1N, 33 PC4/ADC123_IN14, 34 PC5/ADC123_IN15, 35 PB0/ADC123_IN8/T3C3/T8C2N/T1C2N, 36 PB1/ADC123_IN9/T3C4/T8C3N/T1C3N, 37 PB2/BOOT1, 38 PE7/FSMC_D4/T1ETR, 39 PE8/FSMC_D5/T1CH1N, 40 PE9/FSMC_D6/T1C1, 41 PE10/FSMC_D7/T1CH2N, 42 PE11/FSMC_D8/T1C2, 43 PE12/FSMC_D9/T1CH3N, 44 PE13/FSMC_D10/T1C3, 45 PE14/FSMC_D11/T1C4, 46 PE15/FSMC_D12/T1BKIN, 47 PB10/USART3_Tx/I2C2_SCL/T2C3, 48 PB11/USART3_Rx/I2C2_SDA/T2C4, 51 PB12/I2S2_WS/T1BKIN/SPI2_NSS/I2C2_SMBA, 52 PB13/I2S2_CK/T1CH1N/SPI2_SCK, 53 PB14/T1CH2N/SPI2_MISO, 54 PB15/I2S2_SD/T1CH3N/SPI2_MOSI, 55 PD8/USART3_Tx/FSMC_D13, 56 PD9/USART3_Rx/FSMC_D14, 57 PD10/FSMC_D15, 58 PD11/FSMC_A16, 59 PD12/T4C1/FSMC_A17, 60 PD13/T4C2/FSMC_A18, 61 PD14/T4C3/FSMC_D0, 62 PD15/T4C4/FSMC_D1, 63 PC6/I2S2_MCK/T8C1/T3C1/SDIO_D6, 64 PC7/I2S3_MCK/T8C2/T3C2/SDIO_D7, 65 PC8/T8C3/T3C3/SDIO_D0, 66 PC9/T8C4/T3C4/SDIO_D1, 67 PA8/T1C1/MCO, 68 PA9/T1C2/USART1_Tx, 69 PA10/T1C3/USART1_Rx, 70 PA11/CAN_Rx/T1C4/USBDM, 71 PA12/CAN_Tx/T1ETR/USBDP, 77 PA15/JTDI/I2S3_WS/JTDI/T2C1ETR/SPI3_NSS, 78 PC10/UART4_Tx/SDIO_D2, 79 PC11/UART4_Rx/SDIO_D3, 80 PC12/UART5_Tx/SDIO_CK, 81 PD0/CAN_Rx/FSMC_D2, 82 PD1/CAN_Tx/FSMC_D3, 83 PD2/UART5_Rx/T3ETR/SDIO_CMD, 84 PD3/FSMC_CLK, 85 PD4/FSMC_NOE, 86 PD5/USART2_Tx/FSMC_NWE, 87 PD6/USART2_Rx/FSMC_NWAIT, 88 PD7/FSMC_NE1/FSMC_NCE2, 89 PB3/JTDO/SPI3_SCK/I2S3_CK/T2C2/SPI1_SCK, 90 PB4/NJTRST/SPI3_MISO/T3C1/SPI1_MISO, 91 PB5/I2C1_SMBA/I2S3_SD/SPI3_MOSI/T3C2/SPI1_MOSI, 92 PB6/I2C1_SCL/T4C1/USART1_Tx, 93 PB7/I2C1_SDA/FSMC_NADV/USART1_Rx, 95 PB8/SDIO_D4/I2C1_SCL/T4C3(7)/CAN_Rx, 96 PB9/SDIO_D5/I2C1_SDA/T4C4/CAN_Tx, 97 PE0/T4_ETR/FSMC_NBL0, 98 PE1/FSMC_NBL1
part B pins: 6 VBAT, 8 PC14-OSC32_IN, 9 PC15-OSC32_OUT, 10 VSS_5, 11 VDD_5, 12 OSC_IN, 13 OSC_OUT, 14 NRST, 19 VDD12, 20 VSSA, 21 VREF+, 22 VDDA, 27 VSS_4, 28 VDD_4, 49 VCAP1, 50 VDD_1, 72 PA13/JTMS/SWDIO, 73 VCAP2, 74 VSS_2, 75 VDD_2, 76 PA14/JTCK/SWCLK, 94 BOOT0, 99 PDR_ON, 100 VDD_3

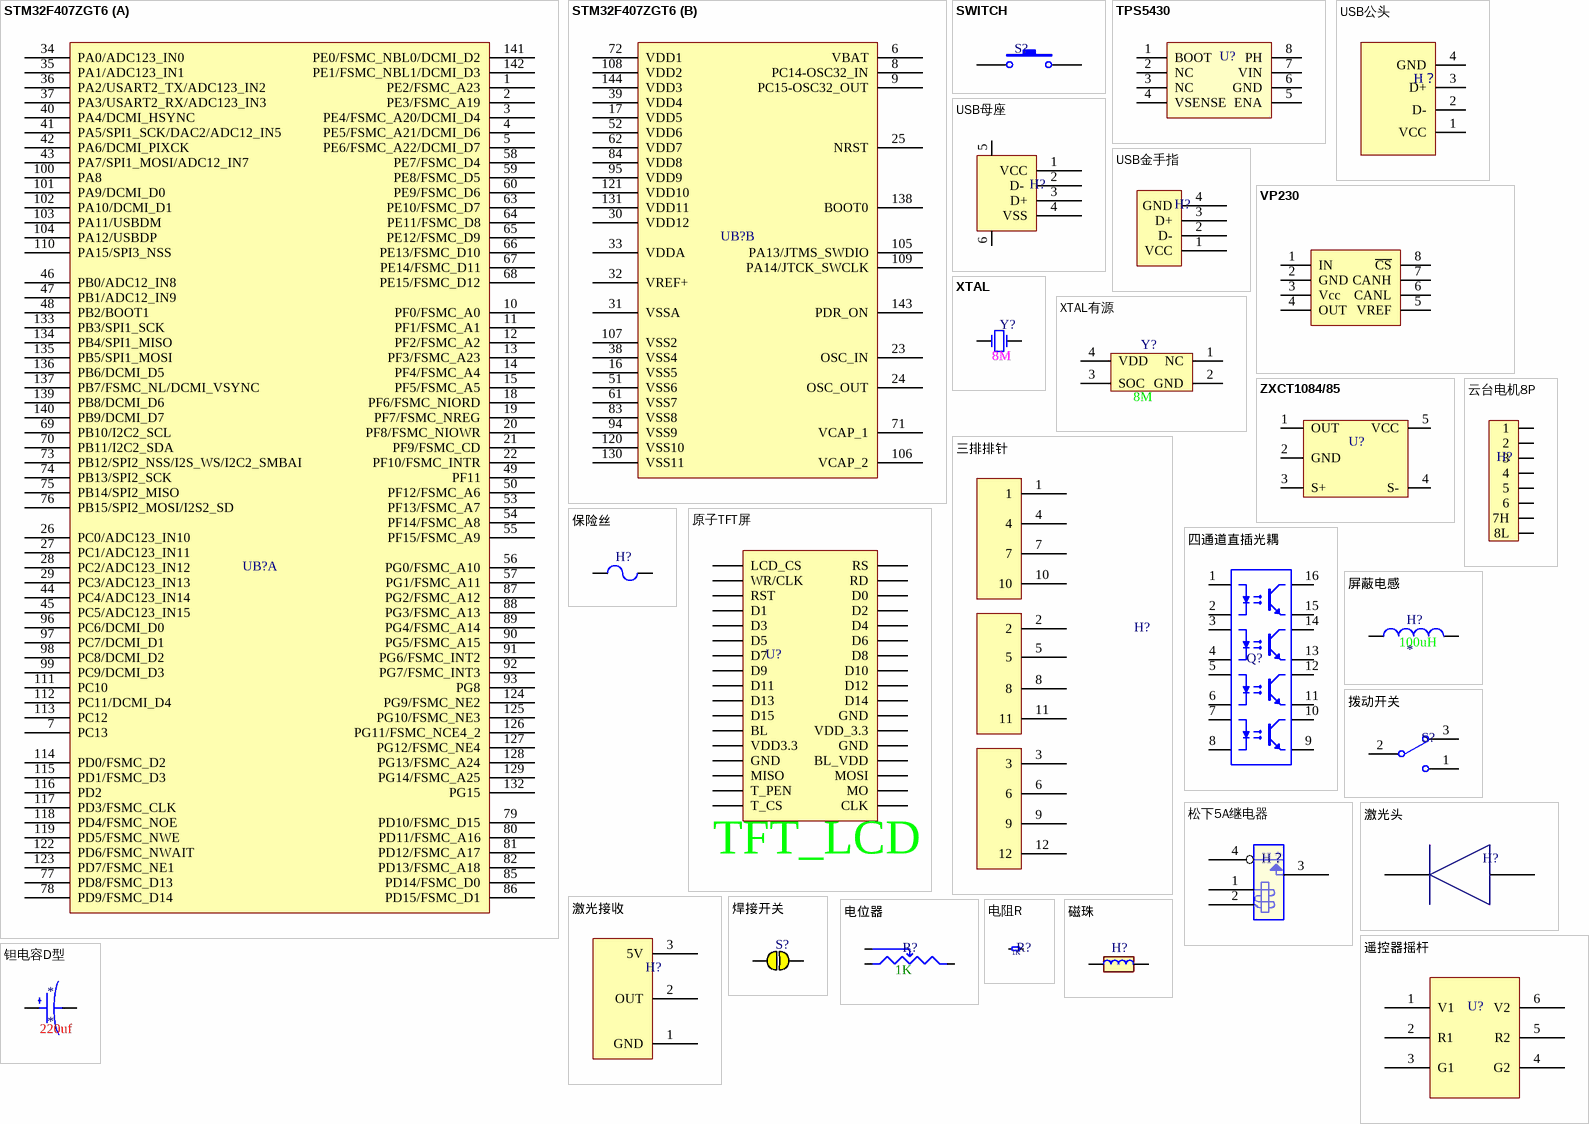
[diagram p4: symbols STM32F407ZGT6 to 钽电容D型]

## STM32F407ZGT6
designator UB?  (value not drawn)
footprint LQFP_144P
part A pins: 1 PE2/FSMC_A23, 2 PE3/FSMC_A19, 3 PE4/FSMC_A20/DCMI_D4, 4 PE5/FSMC_A21/DCMI_D6, 5 PE6/FSMC_A22/DCMI_D7, 7 PC13, 10 PF0/FSMC_A0, 11 PF1/FSMC_A1, 12 PF2/FSMC_A2, 13 PF3/FSMC_A23, 14 PF4/FSMC_A4, 15 PF5/FSMC_A5, 18 PF6/FSMC_NIORD, 19 PF7/FSMC_NREG, 20 PF8/FSMC_NIOWR, 21 PF9/FSMC_CD, 22 PF10/FSMC_INTR, 26 PC0/ADC123_IN10, 27 PC1/ADC123_IN11, 28 PC2/ADC123_IN12, 29 PC3/ADC123_IN13, 34 PA0/ADC123_IN0, 35 PA1/ADC123_IN1, 36 PA2/USART2_TX/ADC123_IN2, 37 PA3/USART2_RX/ADC123_IN3, 40 PA4/DCMI_HSYNC, 41 PA5/SPI1_SCK/DAC2/ADC12_IN5, 42 PA6/DCMI_PIXCK, 43 PA7/SPI1_MOSI/ADC12_IN7, 44 PC4/ADC123_IN14, 45 PC5/ADC123_IN15, 46 PB0/ADC12_IN8, 47 PB1/ADC12_IN9, 48 PB2/BOOT1, 49 PF11, 50 PF12/FSMC_A6, 53 PF13/FSMC_A7, 54 PF14/FSMC_A8, 55 PF15/FSMC_A9, 56 PG0/FSMC_A10, 57 PG1/FSMC_A11, 58 PE7/FSMC_D4, 59 PE8/FSMC_D5, 60 PE9/FSMC_D6, 63 PE10/FSMC_D7, 64 PE11/FSMC_D8, 65 PE12/FSMC_D9, 66 PE13/FSMC_D10, 67 PE14/FSMC_D11, 68 PE15/FSMC_D12, 69 PB10/I2C2_SCL, 70 PB11/I2C2_SDA, 73 PB12/SPI2_NSS/I2S_WS/I2C2_SMBAI, 74 PB13/SPI2_SCK, 75 PB14/SPI2_MISO, 76 PB15/SPI2_MOSI/I2S2_SD, 77 PD8/FSMC_D13, 78 PD9/FSMC_D14, 79 PD10/FSMC_D15, 80 PD11/FSMC_A16, 81 PD12/FSMC_A17, 82 PD13/FSMC_A18, 85 PD14/FSMC_D0, 86 PD15/FSMC_D1, 87 PG2/FSMC_A12, 88 PG3/FSMC_A13, 89 PG4/FSMC_A14, 90 PG5/FSMC_A15, 91 PG6/FSMC_INT2, 92 PG7/FSMC_INT3, 93 PG8, 96 PC6/DCMI_D0, 97 PC7/DCMI_D1, 98 PC8/DCMI_D2, 99 PC9/DCMI_D3, 100 PA8, 101 PA9/DCMI_D0, 102 PA10/DCMI_D1, 103 PA11/USBDM, 104 PA12/USBDP, 110 PA15/SPI3_NSS, 111 PC10, 112 PC11/DCMI_D4, 113 PC12, 114 PD0/FSMC_D2, 115 PD1/FSMC_D3, 116 PD2, 117 PD3/FSMC_CLK, 118 PD4/FSMC_NOE, 119 PD5/FSMC_NWE, 122 PD6/FSMC_NWAIT, 123 PD7/FSMC_NE1, 124 PG9/FSMC_NE2, 125 PG10/FSMC_NE3, 126 PG11/FSMC_NCE4_2, 127 PG12/FSMC_NE4, 128 PG13/FSMC_A24, 129 PG14/FSMC_A25, 132 PG15, 133 PB3/SPI1_SCK, 134 PB4/SPI1_MISO, 135 PB5/SPI1_MOSI, 136 PB6/DCMI_D5, 137 PB7/FSMC_NL/DCMI_VSYNC, 139 PB8/DCMI_D6, 140 PB9/DCMI_D7, 141 PE0/FSMC_NBL0/DCMI_D2, 142 PE1/FSMC_NBL1/DCMI_D3
part B pins: 6 VBAT, 8 PC14-OSC32_IN, 9 PC15-OSC32_OUT, 16 VSS5, 17 VDD5, 23 OSC_IN, 24 OSC_OUT, 25 NRST, 30 VDD12, 31 VSSA, 32 VREF+, 33 VDDA, 38 VSS4, 39 VDD4, 51 VSS6, 52 VDD6, 61 VSS7, 62 VDD7, 71 VCAP_1, 72 VDD1, 83 VSS8, 84 VDD8, 94 VSS9, 95 VDD9, 105 PA13/JTMS_SWDIO, 106 VCAP_2, 107 VSS2, 108 VDD2, 109 PA14/JTCK_SWCLK, 120 VSS10, 121 VDD10, 130 VSS11, 131 VDD11, 138 BOOT0, 143 PDR_ON, 144 VDD3

## SWITCH
designator S?  (value not drawn)
按键
footprint SWITCH
pins: 1, 2

## TPS5430
designator U?  (value not drawn)
开关稳压芯片
footprint TPS5430
pins: 1 BOOT, 2 NC, 3 NC, 4 VSENSE, 5 ENA, 6 GND, 7 VIN, 8 PH

## USB公头
designator H？  (value not drawn)
footprint USB公头
pins: 1 VCC, 2 D-, 3 D+, 4 GND

## USB母座
designator H?  (value not drawn)
footprint USB母座
footprint USB母座B
pins: 1 VCC, 2 D- , 3 D+, 4 VSS, 5, 6

## USB金手指
designator H?  (value not drawn)
footprint USB金手指
pins: 1 VCC, 2 D-, 3 D+, 4 GND

## VP230
designator U?  (value not drawn)
CAN 芯片
footprint VP230
pins: 1 IN, 2 GND, 3 Vcc, 4 OUT, 5 VREF, 6 CANL, 7 CANH, 8 ~{CS}

## XTAL
designator Y?  (value not drawn)
晶振
footprint XTAL
pins: 1 OSC1, 2 OSC2
text: 8M

## XTAL有源
designator Y?  (value not drawn)
晶振
footprint XTAL有源
pins: 1 NC, 2 GND, 3 SOC, 4 VDD
text: 8M

## ZXCT1084/85
designator U?  (value not drawn)
高端电流采样
footprint SOT25
pins: 1 OUT, 2 GND, 3 S+, 4 S-, 5 VCC

## 三排排针
designator H?  (value not drawn)
footprint 三排排针
pins: 1, 2, 3, 4, 5, 6, 7, 8, 9, 10, 11, 12

## 云台电机8P
designator H?  (value not drawn)
footprint 云台电机8P
pins: 1, 2, 3, 4, 5, 6, 7 7H, 8 8L

## 保险丝
designator H?  (value not drawn)
footprint 保险丝
pins: 1, 2

## 原子TFT屏
designator U?  (value not drawn)
footprint Header17*2
pins: 1 LCD_CS, 2 RS, 3 WR/CLK, 4 RD, 5 RST, 6 D0, 7 D1, 8 D2, 9 D3, 10 D4, 11 D5, 12 D6, 13 D7, 14 D8, 15 D9, 16 D10, 17 D11, 18 D12, 19 D13, 20 D14, 21 D15, 22 GND, 23 BL, 24 VDD_3.3, 25 VDD3.3, 26 GND, 27 GND, 28 BL_VDD, 29 MISO, 30 MOSI, 31 T_PEN, 32 MO, 33 T_CS, 34 CLK
text: TFT_LCD

## 四通道直插光耦
designator Q?  (value not drawn)
footprint 四路直插光耦
pins: 1 A "Anode", 2 K "Cathode", 3 A "Anode", 4 K "Cathode", 5 A "Anode", 6 K "Cathode", 7 A "Anode", 8 K "Cathode", 9 E "Emitter", 10 C "Collector", 11 E "Emitter", 12 C "Collector", 13 E "Emitter", 14 C "Collector", 15 E "Emitter", 16 C "Collector"

## 屏蔽电感
designator H?
footprint 屏蔽7.2*7.2
footprint 屏蔽10*10
pins: 1, 2
text: 100uH

## 拨动开关
designator S?  (value not drawn)
扭子拨动开关
footprint 拨动开关 (扭子拨动开关)
pins: 1, 2, 3

## 松下5A继电器
designator H？  (value not drawn)
footprint 松下5A继电器
pins: 1 COIL1, 2 COIL2, 3 NO, 4 COMMON

## 激光头
designator H?  (value not drawn)
footprint 激光头
pins: 1, 2

## 激光接收
designator H?  (value not drawn)
footprint 激光接收
pins: 1 GND, 2 OUT, 3 5V

## 焊接开关
designator S?  (value not drawn)
footprint 焊接开关
pins: 0, 1

## 电位器
designator R?  (value not drawn)
footprint 电位器
pins: 1, 2, 3
text: 1K

## 电阻R
designator R?  (value not drawn)
footprint R0805
footprint R0603
footprint 直插电阻
pins: 1, 2
text: 1K

## 磁珠
designator H?  (value not drawn)
footprint 磁珠
pins: 1, 2

## 遥控器摇杆
designator U?  (value not drawn)
摇杆
footprint 遥控器摇杆 (摇杆)
pins: 1 V1, 2 R1, 3 G1, 4 G2, 5 R2, 6 V2

## 钽电容D型
designator *
footprint 钽电容D型
pins: 1, 2
text: 220uf